# Altium footprint library CAP SMD.PcbLib: 16 footprints
Each footprint in its own frame and in the unit in brackets; x right, y up, seen from the top. Pads: shape width x height; smd on the part's side, far side on the other; paste and mask are expansions set on the pad; w line width, h text height; cw(c..) or ccw(c..) is an arc to the next point about the centre after c.
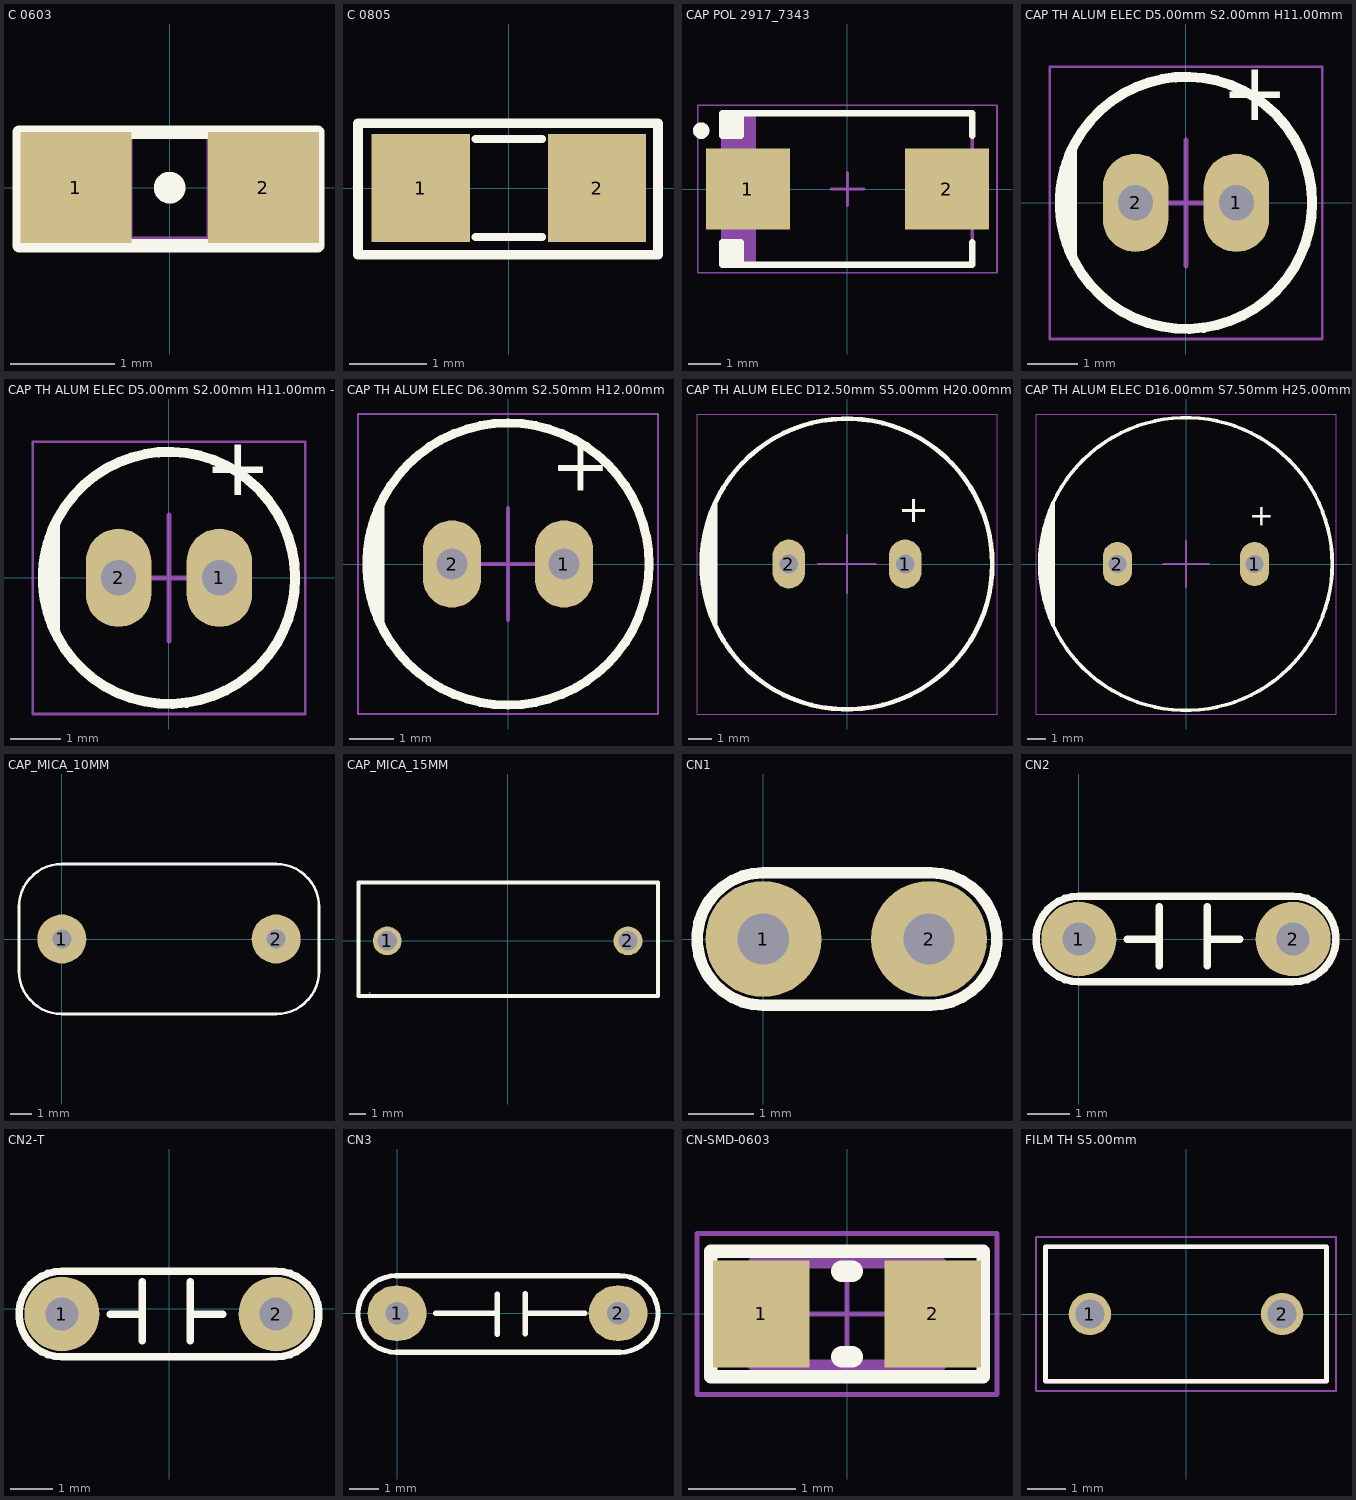
[diagram p0: the footprints below, top view; thin cyan lines are the x and y axes]

## C 0603 [mil]
pads (2):
  rect 42x42 smd paste+0 mask+0: 1(-35.5,0) 2(35.5,0)
Top Overlay:
  circle w6: c0,0 r3
  lines w5: -57,21 -57,-22 56,-22 56,21 -56,21
Mechanical 15:
  circle w0: c-30.5,0 r3
  lines w1: -34.5,-19 -34.5,19 ; -34.5,-19 -14.5,-19 -14.5,19 -34.5,19 ; -34.5,-19 34.5,-19 ; -34.5,-19 -34.5,19 ; -34.5,19 34.5,19 ; 34.5,-19 14.5,-19 14.5,19 34.5,19 ; 34.5,-19 34.5,19 ; 34.5,-19 34.5,19
Mechanical 29:
  text "'.Designator'" at -57.06,-6.5 h19.68
3D body: height 10, standoff 0, extent 0,0 10,10
3D body "c0603c104k5ractu.stp": height 33.31, standoff -0.94, extent -35.45,-19 33.45,18.4

## C 0805 [mil]
pads (2):
  rect 50x55 smd: 1(-45,0) 2(45,0)
Top Overlay:
  lines w4: -17,-25 17,-25 ; -17,25 17,25
  lines w5: -77,-34 76,-34 76,33 -77,33 -77,-34
Mechanical 29:
  text "'.Designator'" at -72.06,-11.5 h19.68
3D body "SW3dPS-0805 SMD Capacitor.STEP": height 30.79, standoff 0, extent -39.36,-22.6 39.38,26.61

## CAP POL 2917_7343 [mm] "Molded Capacitor, 2-Leads, Body 7.30x4.30mm, IPC Medium Density"
height 4.3
pads (2):
  rect 2.55x2.45 smd: 1(-3.025,0) 2(3.025,0)
Top Overlay:
  circle w0.25: c-4.45,1.775 r0.125
  rectangle: -3.8,1.625 -3.25,2.3
  rectangle: -3.8,-2.3 -3.25,-1.625
  lines w0.2: -3.25,-2.3 -3.25,-1.625 -3.8,-1.625 -3.8,-2.3 3.8,-2.3 3.8,-1.625 ; -3.25,2.3 -3.25,1.625 -3.8,1.625 -3.8,2.3 3.8,2.3 3.8,1.625
Mechanical 13:
  rectangle: -3.8,-2.3 -2.778,2.3
  lines w0.1: -3.8,-2.3 3.8,-2.3 3.8,2.3 -3.8,2.3 -3.8,-2.3
Mechanical 15:
  lines w0.05: -4.55,-2.55 4.55,-2.55 4.55,2.55 -4.55,2.55 -4.55,-2.55
  lines w0.1: -0.5,0 0.5,0 ; 0,-0.5 0,0.5
Mechanical 29:
  text "'.Designator'" at -4.191,-0.127 h1.52
3D body "Tantalum Capacitor case E.STEP": height 4.1, standoff 0, extent -3.65,-2.15 3.65,2.15

## CAP TH ALUM ELEC D5.00mm S2.00mm H11.00mm [mm] "5mm Diameter 2mm Lead Spacing Aluminum Electrolytic Capacitors Radial, Can"
height 11
pads (2):
  oval 1.3x1.95 hole 0.7: 1(1,0) 2(-1,0)
Top Overlay:
  circle w0.2: c0,0 r2.5
  region: -2.266,-1.057 -2.323,-0.933 -2.411,-0.674 -2.47,-0.408 -2.5,-0.136 -2.5,0.136 -2.47,0.408 -2.411,0.674 -2.323,0.933 -2.266,1.057
  lines w0.2: -2.266,-1.057 cw(c0,0) -2.266,1.057 -2.266,-1.057
  text "+" at 0.7,1.25 h2
Mechanical 15:
  circle w0.1: c0,0 r2.5
  lines w0.1: -2.266,-1.057 -2.266,1.057
Mechanical 29:
  lines w0.05: -2.7,-2.7 -2.7,2.7 2.7,2.7 2.7,-2.7 -2.7,-2.7
  lines w0.1: -1.25,0 0,0 ; 0,-1.25 0,0 ; 0,1.25 0,0 ; 1.25,0 0,0
  text "'.Designator'" at 0.254,0.462 h1.52
3D body "Cap TH D5.00mm H11.00mm L2.00mm.step": height 11, standoff -2.5, extent -2.509,-2.498 2.5,2.498

## CAP TH ALUM ELEC D5.00mm S2.00mm H11.00mm - duplicate [mm] "5mm Diameter 2mm Lead Spacing Aluminum Electrolytic Capacitors Radial, Can"
height 11
pads (2):
  oval 1.3x1.95 hole 0.7: 1(1,0) 2(-1,0)
Top Overlay:
  circle w0.2: c0,0 r2.5
  region: -2.266,-1.057 -2.323,-0.933 -2.411,-0.674 -2.47,-0.408 -2.5,-0.136 -2.5,0.136 -2.47,0.408 -2.411,0.674 -2.323,0.933 -2.266,1.057
  lines w0.2: -2.266,-1.057 cw(c0,0) -2.266,1.057 -2.266,-1.057
  text "+" at 0.7,1.25 h2
Mechanical 15:
  circle w0.1: c0,0 r2.5
  lines w0.1: -2.266,-1.057 -2.266,1.057
Mechanical 29:
  lines w0.05: -2.7,-2.7 2.7,-2.7 2.7,2.7 -2.7,2.7 -2.7,-2.7
  lines w0.1: -1.25,0 0,0 ; 0,-1.25 0,0 ; 0,1.25 0,0 ; 1.25,0 0,0
  text "'.Designator'" at 0.254,0.462 h1.52
3D body "Cap TH D5.00mm H11.00mm L2.00mm.step": height 11, standoff -2.5, extent -2.509,-2.498 2.5,2.498

## CAP TH ALUM ELEC D6.30mm S2.50mm H12.00mm [mm] "6.3mm Diameter 2.5mm Lead Spacing Aluminum Electrolytic Capacitors Radial, Can"
height 12
pads (2):
  oval 1.3x1.95 hole 0.7: 1(1.25,0) 2(-1.25,0)
Top Overlay:
  circle w0.2: c0,0 r3.15
  region: -2.855,-1.331 -2.928,-1.175 -3.038,-0.85 -3.113,-0.514 -3.15,-0.172 -3.15,0.172 -3.113,0.514 -3.038,0.85 -2.928,1.175 -2.855,1.331
  lines w0.2: -2.855,-1.331 cw(c0,0) -2.855,1.331 -2.855,-1.331
  text "+" at 0.95,1.25 h2
Mechanical 15:
  circle w0.1: c0,0 r3.15
  lines w0.1: -2.855,-1.331 -2.855,1.331
Mechanical 29:
  lines w0.05: -3.35,-3.35 -3.35,3.35 3.35,3.35 3.35,-3.35 -3.35,-3.35
  lines w0.1: -1.25,0 0,0 ; 0,-1.25 0,0 ; 0,1.25 0,0 ; 1.25,0 0,0
  text "'.Designator'" at -4.445,-0.559 h1.52
3D body "Cap TH D6.30mm H12.00mm L2.50mm.step": height 12, standoff -2.5, extent -3.158,-3.15 3.15,3.15

## CAP TH ALUM ELEC D12.50mm S5.00mm H20.00mm [mm] "12.5mm Diameter 5mm Lead Spacing Aluminum Electrolytic Capacitors Radial, Can"
height 20
pads (2):
  oval 1.4x2.1 hole 0.8: 1(2.5,0) 2(-2.5,0)
Top Overlay:
  circle w0.2: c0,0 r6.25
  region: -5.664,-2.641 -5.809,-2.332 -6.028,-1.686 -6.176,-1.02 -6.25,-0.341 -6.25,0.341 -6.176,1.02 -6.028,1.686 -5.809,2.332 -5.664,2.641
  lines w0.2: -5.664,-2.641 cw(c0,0) -5.664,2.641 -5.664,-2.641
  text "+" at 2.2,1.4 h2
Mechanical 15:
  circle w0.1: c0,0 r6.25
  lines w0.1: -5.664,-2.641 -5.664,2.641
Mechanical 29:
  lines w0.05: -6.45,-6.45 6.45,-6.45 6.45,6.45 -6.45,6.45 -6.45,-6.45
  lines w0.1: -1.25,0 0,0 ; 0,-1.25 0,0 ; 0,1.25 0,0 ; 1.25,0 0,0
  text "'.Designator'" at 0.254,0.762 h1.52
3D body "Cap TH D12.50mm H20.00mm L5.00mm.step": height 20, standoff -2.5, extent -6.26,-6.248 6.25,6.248

## CAP TH ALUM ELEC D16.00mm S7.50mm H25.00mm [mm] "16mm Diameter 7.5mm Lead Spacing Aluminum Electrolytic Capacitors Radial, Can"
height 25
pads (2):
  oval 1.6x2.4 hole 1: 1(3.75,0) 2(-3.75,0)
Top Overlay:
  circle w0.2: c0,0 r8
  region: -7.25,-3.381 -7.435,-2.985 -7.716,-2.158 -7.905,-1.305 -8,-0.437 -8,0.437 -7.905,1.305 -7.716,2.158 -7.435,2.985 -7.25,3.381
  lines w0.2: -7.25,-3.381 cw(c0,0) -7.25,3.381 -7.25,-3.381
  text "+" at 3.45,1.7 h2
Mechanical 13:
  circle w0.1: c0,0 r8
  lines w0.1: -7.25,-3.381 -7.25,3.381
Mechanical 15:
  lines w0.05: -8.2,-8.2 8.2,-8.2 8.2,8.2 -8.2,8.2 -8.2,-8.2
  lines w0.1: -1.25,0 0,0 ; 0,-1.25 0,0 ; 0,1.25 0,0 ; 1.25,0 0,0
3D body "Cap TH D16.00mm H25.00mm L7.50mm.step": height 25, standoff -2.5, extent -8.01,-7.999 8,7.999

## CAP_MICA_10MM [mil]
pads (2):
  round 90 hole 35: 1(0,0) 2(393.7,0)
Top Overlay:
  lines w4.72: -78.74,-59.06 ccw(c0,-59.06) 0,-137.8 393.7,-137.8 ccw(c393.7,-59.06) 472.44,-59.06 ; -78.74,59.06 cw(c0,59.06) 0,137.8 393.7,137.8 cw(c393.7,59.06) 472.44,59.06
  lines w5: -78.74,-59.06 -78.74,59.06 ; 472.44,-59.06 472.44,59.06
Mechanical 29:
  text "'.Designator'" at 27,-12.01 h60
3D body "User Library-Capacitor MKT_B32591C3104 (Pitch 10mm).STEP": height 570.87, standoff -157.48, extent -59.9,-99.85 451.9,97

## CAP_MICA_15MM [mm]
pads (2):
  round 1.8 hole 1.2 paste+0 mask+0.05: 1(-7.5,0) 2(7.5,0)
Top Overlay:
  lines w0.254: -9.296,-3.429 9.373,-3.429 9.373,3.632 -9.296,3.632 -9.296,-3.429
Mechanical 15:
  region: -8.54,-3.25 -8.54,-3.275 -8.575,-3.31 -8.625,-3.31 -8.66,-3.275 -8.66,-3.25 -8.66,-3.225 -8.625,-3.19 -8.575,-3.19 -8.54,-3.225
  region: 7.9,0 7.9,-0.08 7.839,-0.227 7.727,-0.339 7.58,-0.4 7.42,-0.4 7.273,-0.339 7.161,-0.227 7.1,-0.08 7.1,0 7.1,0.08 7.161,0.227 7.273,0.339 7.42,0.4 7.58,0.4 7.727,0.339 7.839,0.227 7.9,0.08
  region: -7.1,0 -7.1,-0.08 -7.161,-0.227 -7.273,-0.339 -7.42,-0.4 -7.58,-0.4 -7.727,-0.339 -7.839,-0.227 -7.9,-0.08 -7.9,0 -7.9,0.08 -7.839,0.227 -7.727,0.339 -7.58,0.4 -7.42,0.4 -7.273,0.339 -7.161,0.227 -7.1,0.08
  lines w0.051: -9.322,-3.429 -9.322,3.658 9.373,3.658 9.373,-3.429 -9.322,-3.429
Mechanical 29:
  text "'.Designator'" at -8.407,-0.584 h1.52
3D body "User Library-CBB81_W18_5_H12_5_T7_0_P15_0.STEP": height 15.5, standoff -10, extent -9.248,-3.429 9.248,3.571

## CN1 [mil]
height 200
pads (2):
  round 70 hole 31: 1(0,0) 2(100,0)
Top Overlay:
  lines w7: 100,-40 0,-40 cw(c0,0) 0,40 100,40 ; 101,-40 ccw(c101,0) 101,40
Mechanical 29:
  text "'.Designator'" at -52.06,-3.5 h19.68
3D body "SW3dPS-Cap 100n.STEP": height 265, standoff -46.85, extent -59.94,-30.01 170.06,36.78

## CN2 [mil]
height 200
pads (2):
  round 70 hole 31: 1(0,0) 2(200,0)
Top Overlay:
  lines w7: 45,0 75,0 ; 75,-25 75,30 ; 120,-25 120,30 ; 120,0 150,0 ; 0,-40 cw(c0,0) 0,40 200,40 cw(c200,0) 200,-40 0,-40
Mechanical 29:
  text "'.Designator'" at -11.06,-7.5 h19.68
3D body "tu hoa 5mm.step": height 407.48, standoff -87.28, extent -54.48,-44.21 260.48,54.6

## CN2-T [mil]
height 200
pads (2):
  round 70 hole 31: 1(-100,-5) 2(100,-5)
Top Overlay:
  lines w7: -55,-5 -25,-5 ; -25,-30 -25,25 ; 20,-30 20,25 ; 20,-5 50,-5 ; -100,-45 cw(c-100,-5) -100,35 100,35 cw(c100,-5) 100,-45 -100,-45
3D body "User Library-Disc_CAP d6x3_5_5mm.step": height 318.88, standoff -79.53, extent -118.11,-47.68 118.11,35

## CN3 [mil] "Cap np W 0.3"
height 200
pads (2):
  oval 80x75 hole 31: 1(0,0) 2(300,0)
Top Overlay:
  lines w7: -1,-53 cw(c-1,-1) -1,51 ; 0,51 300,51 ; 1,-53 300,-53 ; 52,0 136,0 ; 136,-29 136,26 ; 174,-28 174,27 ; 174,0 255,0 ; 300.96,50.99 cw(c302,-1) 302,-53
Mechanical 29:
  text "'.Designator'" at 21,-14.01 h60
3D body "SW3dPS-Panasonic ECK-A3D102KBP.STEP": height 419.95, standoff -100, extent 0,-39.04 315,54.74

## CN-SMD-0603 [mm]
pads (2):
  rect 0.9x1 smd: 1(-0.8,0) 2(0.8,0)
Top Overlay:
  lines w0.127: -1.27,-0.584 -1.27,0.584 1.27,0.584 1.27,-0.584 -1.27,-0.584
  lines w0.2: -0.05,-0.4 0.05,-0.4 ; -0.05,0.4 0.05,0.4
Mechanical 15:
  lines w0.1: -0.875,-0.475 -0.875,0.475 0.875,0.475 0.875,-0.475 -0.875,-0.475
Mechanical 29:
  lines w0.05: -0.475,0 0.475,0 ; 0,-0.475 0,0.475 ; -1.397,-0.75 -1.397,0.75 1.397,0.75 1.397,-0.75 -1.397,-0.75
  text "'.Designator'" at -1.17,-0.241 h0.5
3D body "User Library-0603 SMD Capacitor.step": height 0.3, standoff 0, extent -0.8,-0.4 0.8,0.4

## FILM TH S5.00mm [mm]
pads (2):
  round 1.1 hole 0.75: 1(-2.5,0) 2(2.5,0)
Top Overlay:
  lines w0.127: -3.65,-1.75 -3.65,1.75 3.65,1.75 3.65,-1.75 -3.65,-1.75
Mechanical 15:
  lines w0.127: -3.65,-1.75 3.65,-1.75 3.65,1.75 -3.65,1.75 -3.65,-1.75
Mechanical 29:
  lines w0.05: -3.9,-2 3.9,-2 3.9,2 -3.9,2 -3.9,-2
3D body "CAP_B32529_03_5X08_0X07_3_TDK.step": height 8, standoff -4.22, extent -3.645,-1.778 3.645,1.728